# Altium footprint library SensorModule.PcbLib: 3 footprints
Each footprint in its own frame and in the unit in brackets; x right, y up, seen from the top. Pads: shape width x height; smd on the part's side, far side on the other; paste and mask are expansions set on the pad; w line width, h text height; cw(c..) or ccw(c..) is an arc to the next point about the centre after c.
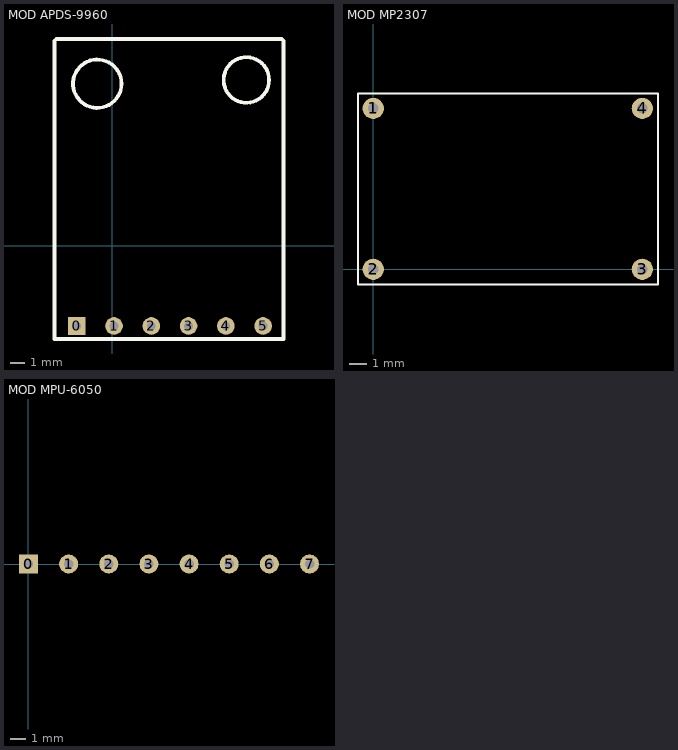
[diagram p0: the footprints below, top view; thin cyan lines are the x and y axes]

## MOD APDS-9960 [mm]
pads (6):
  rect 1.2x1.2 hole 0.6: 0(-2.413,-5.461)
  round 1.2 hole 0.6: 1(0.127,-5.461) 2(2.667,-5.461) 3(5.207,-5.461) 4(7.747,-5.461) 5(10.287,-5.461)
Top Overlay:
  circle w0.254: c9.144,11.303 r1.55
  circle w0.254: c-1.016,11.049 r1.651
  lines w0.254: -3.937,13.97 -3.937,-6.35 11.684,-6.35 11.684,13.97 11.557,14.097 -3.81,14.097
3D body "?????? ???????? ??????, ?????, ??????????? APDS-9960.SLDPRT": height 9.47, standoff -1.88, extent -3.813,-6.35 11.687,14.089

## MOD MP2307 [mm]
pads (4):
  round 1.2 hole 0.6: 1(0,9.114) 2(0,0) 3(15.24,0) 4(15.24,9.114)
Top Overlay:
  lines w0.127: -0.864,-0.864 16.129,-0.864 16.129,9.957 -0.864,9.957 -0.864,-0.864

## MOD MPU-6050 [mm]
pads (8):
  rect 1.2x1.2 hole 0.6: 0(0,0)
  round 1.2 hole 0.6: 1(2.54,0) 2(5.08,0) 3(7.62,0) 4(10.16,0) 5(12.7,0) 6(15.24,0) 7(17.78,0)
3D body "ITG-MPU.STEP": height 11.03, standoff -0.72, extent -1.987,-1.524 19.513,14.976